# EAGLE library part FT232R (library MF_IC_Digital)
Manufacturer Part #: FT232R Manufacturer: FTDI Description: USB Interface IC USB to Serial UART Enhanced IC
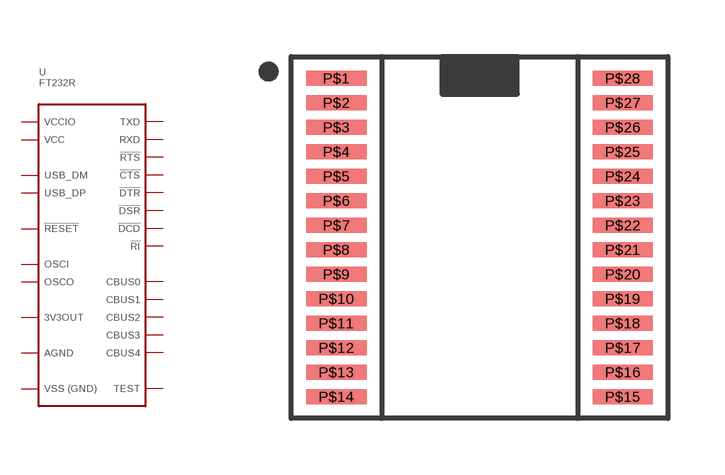
[diagram p6: symbol with the pads of SSOP28; footprint SSOP28]

Designator prefix U

## FT232RL-REEL (HOUSEPART: NO; MPN: FT232RL-REEL; POPULATE: 1; URL: http://www.ftdichip.com/Support/Documents/DataSheets/ICs/DS_FT232R.pdf; VALUE: FT232RL-REEL)  [SSOP28]
P$1  TXD
P$2  !DTR
P$3  !RTS
P$4  VCCIO
P$5  RXD
P$6  !RI
P$7  GND
P$9  !DSR
P$10  !DCD
P$11  !CTS
P$12  CBUS4
P$13  CBUS2
P$14  CBUS3
P$15  USBDP
P$16  USBDM
P$17  3V3OUT
P$18  GND
P$19  !RESET
P$20  VCC
P$21  GND
P$22  CBUS1
P$23  CBUS0
P$25  AGND
P$26  TEST
P$27  OSCI
P$28  OSCO

## Footprint SSOP28 (pad centres in mm)
Description: Standard SSOP-28 Package.
smd 1.6 x 0.4: P$1 -3.8,4.225; P$2 -3.8,3.575; P$3 -3.8,2.925; P$4 -3.8,2.275; P$5 -3.8,1.625; P$6 -3.8,0.975; P$7 -3.8,0.325; P$8 -3.8,-0.325; P$9 -3.8,-0.975; P$10 -3.8,-1.625; P$11 -3.8,-2.275; P$12 -3.8,-2.925; P$13 -3.8,-3.575; P$14 -3.8,-4.225; P$15 3.8,-4.225; P$16 3.8,-3.575; P$17 3.8,-2.925; P$18 3.8,-2.275; P$19 3.8,-1.625; P$20 3.8,-0.975; P$21 3.8,-0.325; P$22 3.8,0.325; P$23 3.8,0.975; P$24 3.8,1.625; P$25 3.8,2.275; P$26 3.8,2.925; P$27 3.8,3.575; P$28 3.8,4.225